# Altium footprint library SMT0540SR.PcbLib: 1 footprints
Each footprint in its own frame and in the unit in brackets; x right, y up, seen from the top. Pads: shape width x height; smd on the part's side, far side on the other; paste and mask are expansions set on the pad; w line width, h text height; cw(c..) or ccw(c..) is an arc to the next point about the centre after c.
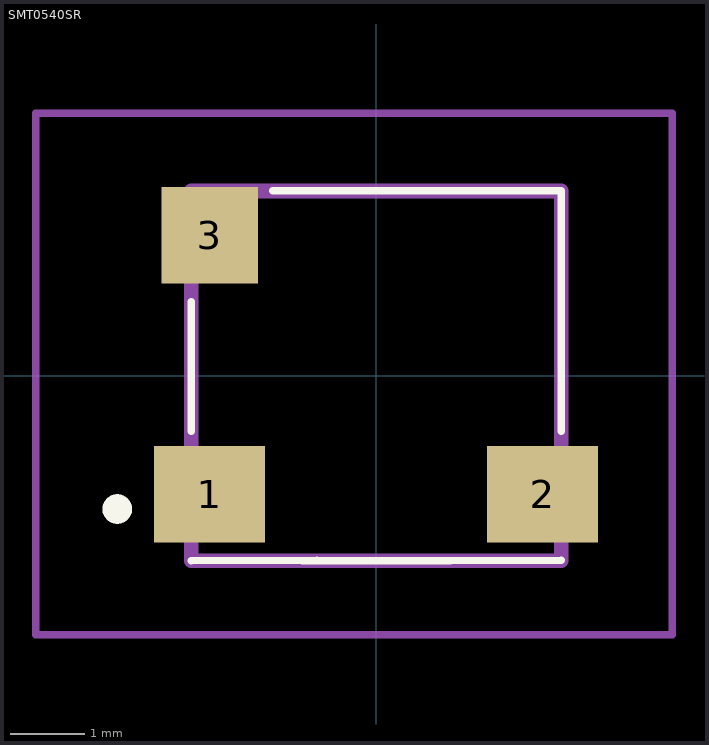
[diagram p0: the footprint, top view; thin cyan lines are the x and y axes]

## SMT0540SR [mm]
pads (3):
  rect 1.5x1.3 smd: 1(-2.25,-1.6) 2(2.25,-1.6)
  rect 1.3x1.3 smd: 3(-2.25,1.9)
Top Overlay:
  lines w0.1: -2.5,-2.5 -0.8,-2.491 ; -2.5,-0.75 -2.5,1 ; -1.4,2.5 -1,2.5 2.5,2.5 2.5,-0.75 ; -1,-2.5 1,-2.5 2.5,-2.491
  lines w0.2: -3.5,-1.9 ccw(c-3.5,-1.8) -3.5,-1.7 ; -3.5,-1.9 -3.5,-1.9 ; -3.5,-1.9 cw(c-3.5,-1.8) -3.5,-1.7 ; -3.5,-1.7 -3.5,-1.7
Mechanical 15:
  lines w0.2: -2.5,-2.5 2.5,-2.5 2.5,2.5 -2.5,2.5 -2.5,-2.5
Mechanical 20:
  lines w0.1: -4.6,-3.5 4,-3.5 4,3.55 -4.6,3.55 -4.6,-3.5
3D body "SMT-0540-S-R.stp": height 5.8, standoff -4.65, extent -10,-3.376 10,3.376